# Altium footprint library RESC3116X65N.PcbLib: 6 footprints
Each footprint in its own frame and in the unit in brackets; x right, y up, seen from the top. Pads: shape width x height; smd on the part's side, far side on the other; paste and mask are expansions set on the pad; w line width, h text height; cw(c..) or ccw(c..) is an arc to the next point about the centre after c.
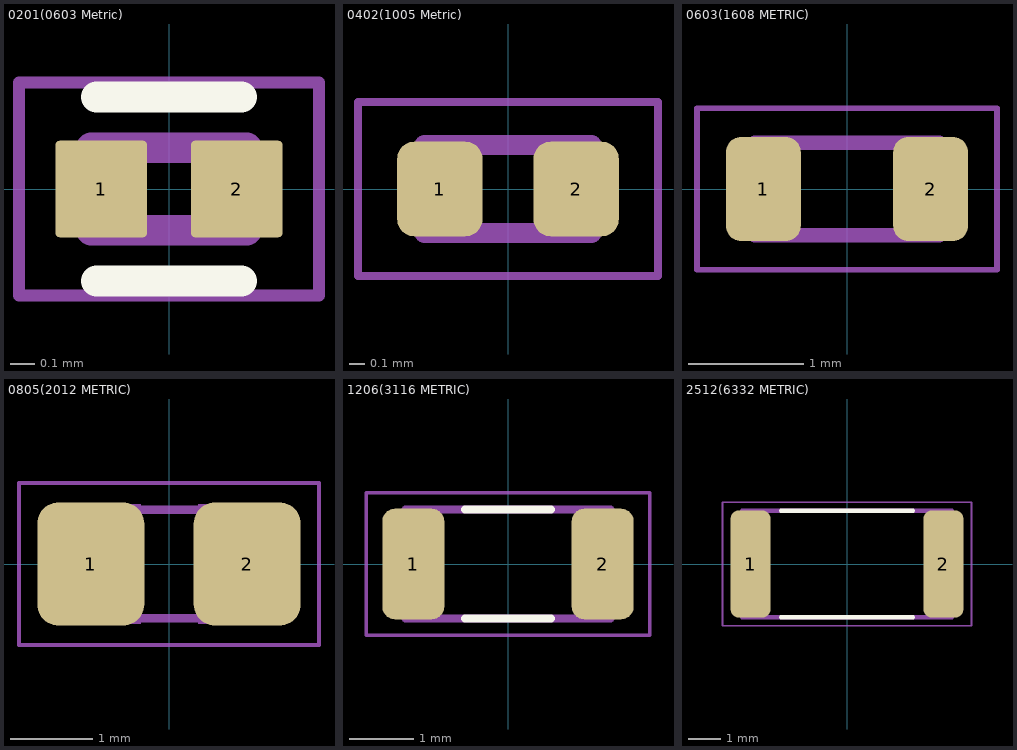
[diagram p0: the footprints below, top view; thin cyan lines are the x and y axes]

## 0201(0603 Metric) [mm]
pads (2):
  rrect10% 0.38x0.4 smd: 1(-0.28,0) 2(0.28,0)
Top Overlay:
  lines w0.127: -0.3,-0.38 0.3,-0.38 ; -0.3,0.38 0.3,0.38
Mechanical 13:
  lines w0.127: -0.32,-0.17 -0.32,0.17 0.32,0.17 0.32,-0.17 -0.32,-0.17
Mechanical 15:
  lines w0.05: -0.62,-0.44 -0.62,0.44 0.62,0.44 0.62,-0.44 -0.62,-0.44
3D body "2-1879458-5.stp": height 0.22, standoff -0.01, extent -0.29,-0.145 0.29,0.145

## 0402(1005 Metric) [mm]
pads (2):
  rrect40% 0.54x0.6 smd: 1(-0.432,0) 2(0.432,0)
Mechanical 13:
  lines w0.127: -0.53,-0.28 0.53,-0.28 0.53,0.28 -0.53,0.28 -0.53,-0.28
Mechanical 15:
  lines w0.05: -0.95,-0.55 0.95,-0.55 0.95,0.55 -0.95,0.55 -0.95,-0.55
3D body "step_temp.STEP": height 0.35, standoff 0, extent -0.5,-0.25 0.5,0.25

## 0603(1608 METRIC) [mm]
pads (2):
  rrect40% 0.65x0.9 smd: 1(-0.725,0) 2(0.725,0)
Mechanical 13:
  lines w0.127: -0.8,-0.4 -0.8,0.4 0.8,0.4 0.8,-0.4 -0.8,-0.4
Mechanical 15:
  lines w0.05: -1.3,-0.7 -1.3,0.7 1.3,0.7 1.3,-0.7 -1.3,-0.7
3D body "ERJ-U03F11R8V.STEP": height 0.45, standoff 0, extent -0.8,-0.4 0.8,0.4

## 0805(2012 METRIC) [mm]
pads (2):
  rrect40% 1.3x1.5 smd: 1(-0.95,0) 2(0.95,0)
Mechanical 13:
  region: 1.106,-0.724 0.356,-0.724 0.356,0.726 1.106,0.726
  region: -0.342,-0.724 -1.092,-0.724 -1.092,0.726 -0.342,0.726
  lines w0.102: -0.381,0.66 0.381,0.66 ; -0.356,-0.66 0.381,-0.66
Mechanical 15:
  lines w0.051: -1.823,-0.983 -1.823,0.983 1.823,0.983 1.823,-0.983 -1.823,-0.983
3D body "5-2176244-5.stp": height 0.53, standoff -0.02, extent -1,-0.625 1,0.625

## 1206(3116 METRIC) [mm]
pads (2):
  rrect40% 0.97x1.73 smd: 1(-1.48,0) 2(1.48,0)
Top Overlay:
  lines w0.127: -0.67,-0.85 0.67,-0.85 ; -0.67,0.85 0.67,0.85
Mechanical 13:
  lines w0.127: -1.6,-0.85 -1.6,0.85 1.6,0.85 1.6,-0.85 -1.6,-0.85
Mechanical 15:
  lines w0.05: -2.215,-1.115 -2.215,1.115 2.215,1.115 2.215,-1.115 -2.215,-1.115
3D body "AR1206JR-07390RL.STEP": height 0.65, standoff 0, extent -1.55,-0.8 1.55,0.8

## 2512(6332 METRIC) [mm]
pads (2):
  rrect40% 1.24x3.32 smd: 1(-2.99,0) 2(2.99,0)
Top Overlay:
  lines w0.127: -2.05,-1.65 2.05,-1.65 ; -2.05,1.65 2.05,1.65
Mechanical 13:
  lines w0.127: -3.25,-1.65 -3.25,1.65 3.25,1.65 3.25,-1.65 -3.25,-1.65
Mechanical 15:
  lines w0.05: -3.858,-1.91 -3.858,1.91 3.858,1.91 3.858,-1.91 -3.858,-1.91
3D body "CRCW251220R0JNEG.STEP": height 0.7, standoff 0, extent -3.15,-1.575 3.15,1.575